# Altium integrated library libNico.IntLib: 4 symbols
Pins are listed as number, name and electrical type; pins without a type are passive.

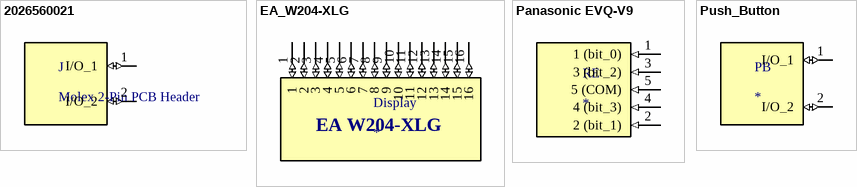
[diagram p0: symbols 2026560021 to Push_Button]

## 2026560021
designator J, comment Molex 2-Pin PCB Header
Molex Pico-EZmate and Pico-EZmate Slim Wire-to-Board PCB Header
footprint 2026560021 (Molex Pico-EZmate and Pico-EZmate Slim Wire-to-Board PCB Header)
pins: 1 I/O_1 (io), 2 I/O_2 (io)

## EA_W204-XLG
designator Display
Display
footprint EA_W204-XLG (Display)
pins: 1 (io), 2 (io), 3 (io), 4 (io), 5 (io), 6 (io), 7 (io), 8 (io), 9 (io), 10 (io), 11 (io), 12 (io), 13 (io), 14 (io), 15 (io), 16 (io)
text: EA W204-XLG

## Panasonic EVQ-V9
designator RE
Rotary Encoder
footprint Panasonic EVQ-V9 (Rotary Encoder)
pins: 1 1 (bit_0) (in), 2 2 (bit_1) (in), 3 3 (bit_2) (in), 4 4 (bit_3) (in), 5 5 (COM) (in)

## Push_Button
designator PB
footprint Push_Button
pins: 1 I/O_1 (io), 2 I/O_2 (io)